# EAGLE library part SR_FRS (library SR_FRS)
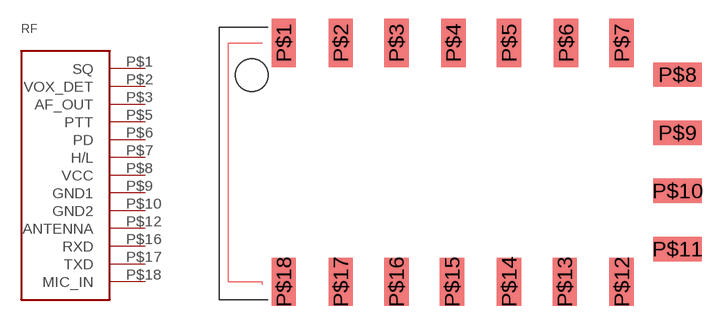
[diagram p0: symbol with the pads of SR_FRS; footprint SR_FRS]

Designator prefix RF

## SR_FRS  [SR_FRS]
P$1  SQ
P$2  VOX_DET
P$3  AF_OUT
P$5  PTT
P$6  PD
P$7  H/L
P$8  VCC
P$9  GND1
P$10  GND2
P$12  ANTENNA
P$16  RXD
P$17  TXD
P$18  MIC_IN

## Footprint SR_FRS (pad centres in mm)
smd 1.93 x 3.81: P$1 0,0; P$2 4.5,0; P$3 8.9,0; P$4 13.4,0; P$5 17.8,0; P$6 22.3,0; P$7 26.7,0; P$12 26.7,-18.9; P$13 22.2,-18.9; P$14 17.8,-18.9; P$15 13.3,-18.9; P$16 8.9,-18.9; P$17 4.5,-18.9; P$18 0,-18.9
smd 3.81 x 1.93: P$8 31.1,-2.5; P$9 31.1,-7.1; P$10 31.1,-11.7; P$11 31.1,-16.3